# Altium schematic symbol library SCH-LIB.SchLib: 16 symbols
Pins are listed as number, name and electrical type; pins without a type are passive.

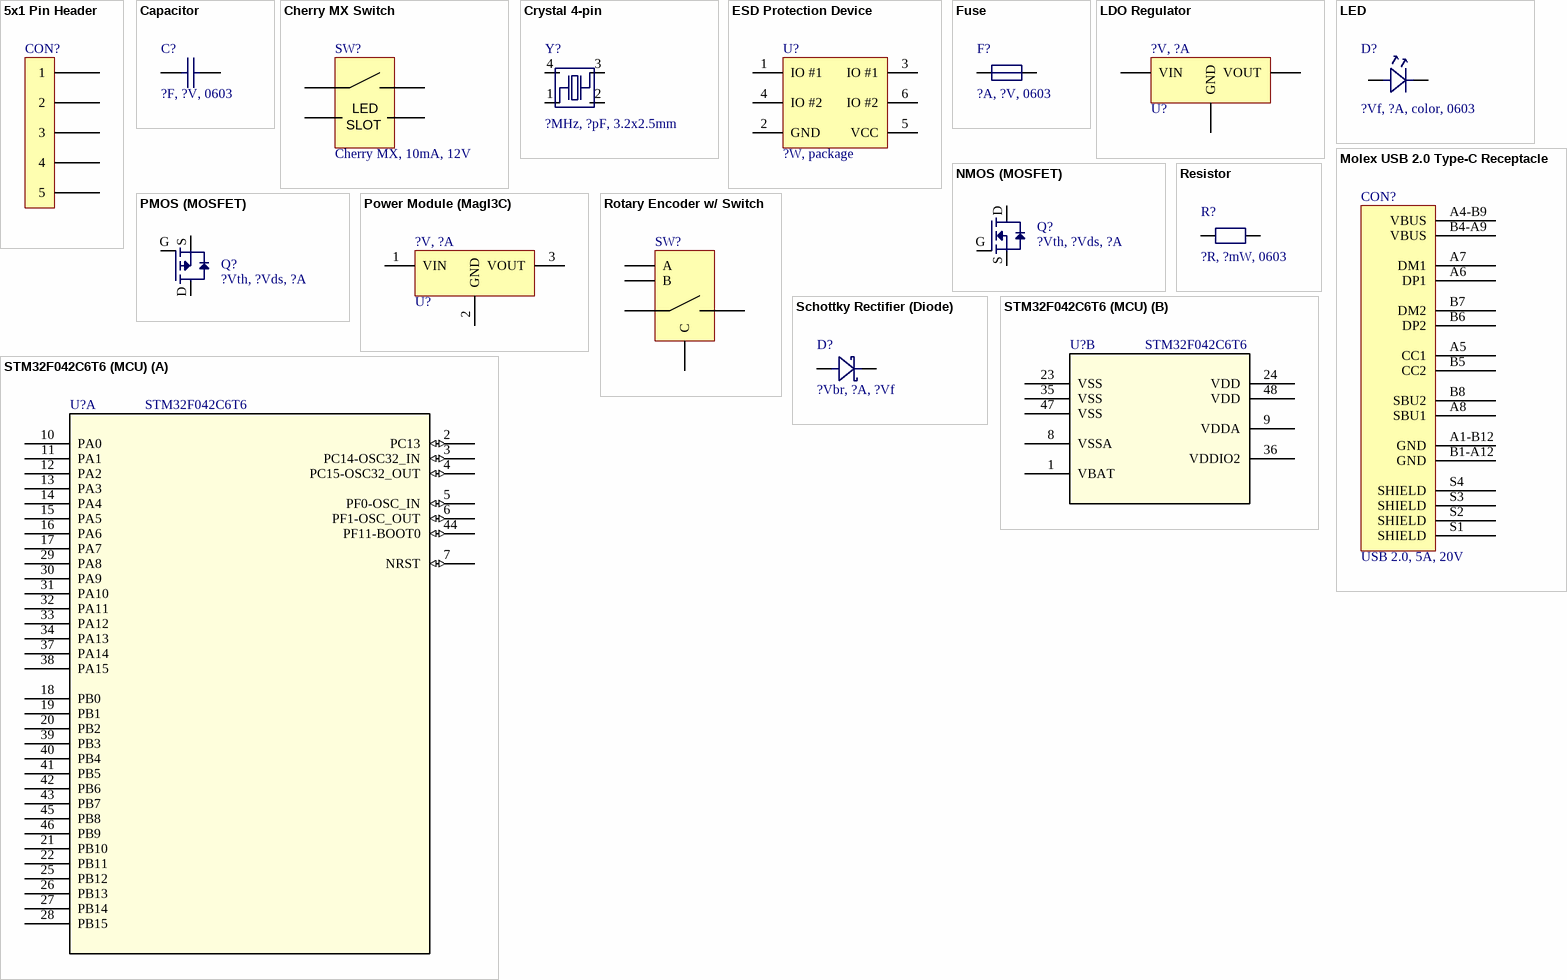
[diagram p0: symbols 5x1 Pin Header to STM32F042C6T6 (MCU)]

## 5x1 Pin Header
designator CON?
Manufacturer: *; Manufacturer ID: *; Supplier: *; Supplier ID: *; URL: *
footprint 5x1 Pin Header (TH; RA) (Molex 22-05-3051)
footprint 5x1 Pin Header (TH)
pins: 1, 2, 3, 4, 5

## Capacitor
designator C?, comment ?F, ?V, 0603
Manufacturer: *; Manufacturer ID: *; Supplier: *; Supplier ID: *; URL: *
footprint 0805 [2012]
footprint 0603 [1608]
pins: 1, 2

## Cherry MX Switch
designator SW?, comment Cherry MX, 10mA, 12V
Manufacturer: Cherry
footprint Cherry MX Switch
pins: 1, 2, 3, 4
text: LED; SLOT

## Crystal 4-pin
designator Y?, comment ?MHz, ?pF, 3.2x2.5mm
Manufacturer: *; Manufacturer ID: *; Supplier: *; Supplier ID: *; URL: *
footprint Crystal 3.2x2.5mm
pins: 1, 2, 3, 4

## ESD Protection Device
designator U?, comment ?W, package
Manufacturer: *; Manufacturer ID: *; Supplier: *; Supplier ID: *; URL: *
footprint SOT457
pins: 1 IO #1, 2 GND, 3 IO #1, 4 IO #2, 5 VCC, 6 IO #2

## Fuse
designator F?, comment ?A, ?V, 0603
Manufacturer: *; Manufacturer ID: *; Supplier: *; Supplier ID: *; URL: *
footprint 0603 [1608]
pins: 1, 2

## LDO Regulator
designator U?, comment ?V, ?A
Manufacturer: *; Manufacturer ID: *; Supplier: *; Supplier ID: *; URL: *
footprint SOT-23-3
pins: 1 GND, 2 VOUT, 3 VIN

## LED
designator D?, comment ?Vf, ?A, color, 0603
Manufacturer: *; Manufacturer ID: *; Supplier: *; Supplier ID: *; URL: *
footprint LED 0603 [1608]
pins: 1, 2

## Molex USB 2.0 Type-C Receptacle
designator CON?, comment USB 2.0, 5A, 20V
Manufacturer: MOLEX; Manufacturer ID: 216990-0003; Supplier: *; Supplier ID: *; URL: *
footprint Molex USB Type-C (Molex 216990-0003)
pins: A1-B12 GND, A4-B9 VBUS, A5 CC1, A6 DP1, A7 DM1, A8 SBU1, B1-A12 GND, B4-A9 VBUS, B5 CC2, B6 DP2, B7 DM2, B8 SBU2, S1 SHIELD, S2 SHIELD, S3 SHIELD, S4 SHIELD

## NMOS (MOSFET)
designator Q?, comment ?Vth, ?Vds, ?A
Manufacturer: *; Manufacturer ID: *; Supplier: *; Supplier ID: *; URL: *
footprint TO-252 (DPAK); pin to pad D>3 G>1 S>2
pins: D, G, S

## PMOS (MOSFET)
designator Q?, comment ?Vth, ?Vds, ?A
Manufacturer: *; Manufacturer ID: *; Supplier: *; Supplier ID: *; URL: *
footprint TO-252 (DPAK); pin to pad D>3 G>1 S>2
pins: D, G, S

## Power Module (MagI3C)
designator U?, comment ?V, ?A
Manufacturer: *; Manufacturer ID: *; Supplier: *; Supplier ID: *; URL: *
footprint Power Module (MagI3C)
pins: 1 VIN, 2 GND, 3 VOUT

## Resistor
designator R?, comment ?R, ?mW, 0603
Manufacturer: *; Manufacturer ID: *; Supplier: *; Supplier ID: *; URL: *
footprint 0805 [2012]
footprint 0603 [1608]
pins: 1, 2

## Rotary Encoder w/ Switch
designator SW?
Manufacturer: *; Manufacturer ID: *; Supplier: *; Supplier ID: *; URL: *
footprint Rotary Encoder w/ Switch (Bourns) (PEC11H-4xxxF-Sxxxx)
pins: 1, 2, A, B, C

## Schottky Rectifier (Diode)
designator D?, comment ?Vbr, ?A, ?Vf
Manufacturer: *; Manufacturer ID: *; Supplier: *; Supplier ID: *; URL: *
footprint SOD-128
pins: 1, 2

## STM32F042C6T6 (MCU)
designator U?, comment STM32F042C6T6
Manufacturer: STMicroelectronics; Manufacturer ID: STM32F042C6T6; Supplier: *; Supplier ID: *; URL: *
footprint LQFP48
part A pins: 2 PC13 (io), 3 PC14-OSC32_IN (io), 4 PC15-OSC32_OUT (io), 5 PF0-OSC_IN (io), 6 PF1-OSC_OUT (io), 7 NRST (io), 10 PA0, 11 PA1, 12 PA2, 13 PA3, 14 PA4, 15 PA5, 16 PA6, 17 PA7, 18 PB0, 19 PB1, 20 PB2, 21 PB10, 22 PB11, 25 PB12, 26 PB13, 27 PB14, 28 PB15, 29 PA8, 30 PA9, 31 PA10, 32 PA11, 33 PA12, 34 PA13, 37 PA14, 38 PA15, 39 PB3, 40 PB4, 41 PB5, 42 PB6, 43 PB7, 44 PF11-BOOT0 (io), 45 PB8, 46 PB9
part B pins: 1 VBAT (power), 8 VSSA (power), 9 VDDA (power), 23 VSS (power), 24 VDD (power), 35 VSS (power), 36 VDDIO2 (power), 47 VSS (power), 48 VDD (power)